# EAGLE library part LTC3553 (library adjacent-reality)
Micropower USB Power Manager With Li-Ion Charger, LDO and Buck Regulator
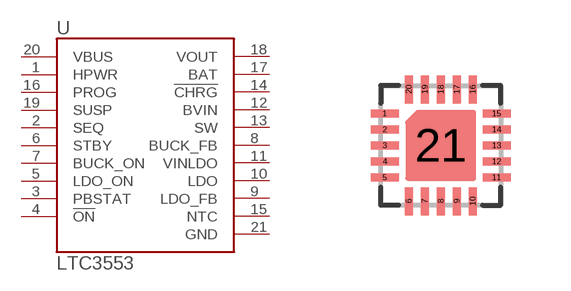
[diagram p11: symbol with the pads of QFN20-3X3; footprint QFN20-3X3]

Designator prefix -

## LTC3553  [QFN20-3X3]
1  HPWR
2  SEQ
3  PBSTAT
4  !ON
5  LDO_ON
6  STBY
7  BUCK_ON
8  BUCK_FB
9  LDO_FB
10  LDO
11  VINLDO
12  BVIN
13  SW
14  !CHRG
15  NTC
16  PROG
17  BAT
18  VOUT
19  SUSP
20  VBUS
21  GND

## Footprint QFN20-3X3 (pad centres in mm)
smd 0.7 x 0.2: 1 -1.4,0.8; 2 -1.4,0.4; 3 -1.4,0; 4 -1.4,-0.4; 5 -1.4,-0.8; 11 1.4,-0.8; 12 1.4,-0.4; 13 1.4,0; 14 1.4,0.4; 15 1.4,0.8
smd 0.2 x 0.7: 6 -0.8,-1.4; 7 -0.4,-1.4; 8 0,-1.4; 9 0.4,-1.4; 10 0.8,-1.4; 16 0.8,1.4; 17 0.4,1.4; 18 0,1.4; 19 -0.4,1.4; 20 -0.8,1.4
smd 1.25 x 1.25: 21 0,0